# Altium footprint library Diode_SOD-123F.PcbLib: 1 footprints
Each footprint in its own frame and in the unit in brackets; x right, y up, seen from the top. Pads: shape width x height; smd on the part's side, far side on the other; paste and mask are expansions set on the pad; w line width, h text height; cw(c..) or ccw(c..) is an arc to the next point about the centre after c.
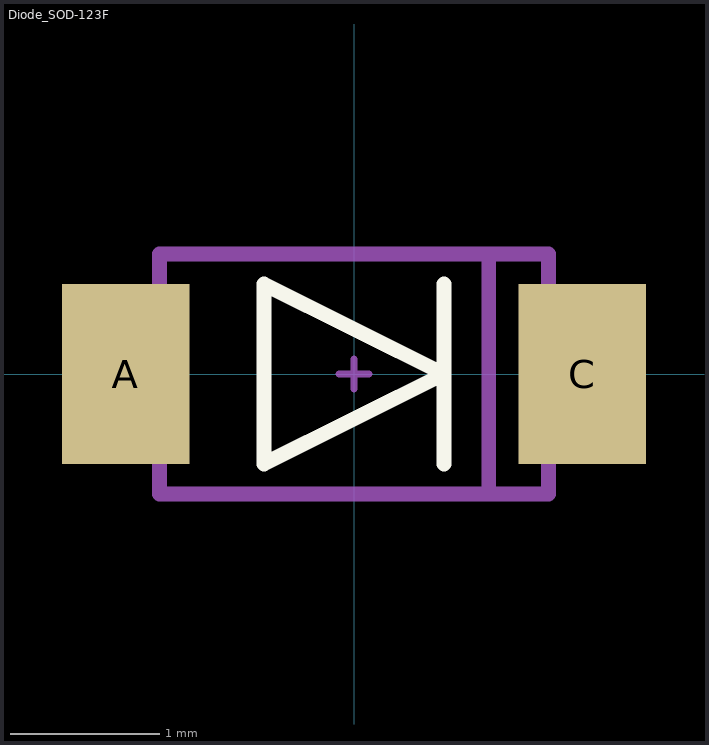
[diagram p0: the footprint, top view; thin cyan lines are the x and y axes]

## Diode_SOD-123F [mm] "Diode_SOD-123F"
height 0.25
pads (2):
  rect 0.85x1.2 smd mask+0.05: A(-1.525,0) C(1.525,0)
Top Overlay:
  lines w0.1: 0.6,-0.6 0.6,0.6 ; -0.6,-0.6 -0.6,0.6 0.6,0 -0.6,-0.6
Top Assembly:
  lines w0.1: 0.9,-0.8 0.9,0.8 ; -1.3,-0.8 1.3,-0.8 1.3,0.8 -1.3,0.8 -1.3,-0.8
Top Designator:
  text ".Designator" at -2,-1.675 h1.2
Top Component Center:
  lines w0.05: -0.1,0 0.1,0 ; 0,-0.1 0,0.1
3D body "Diode_SOD-123F.step": height 1.2, standoff -0.01, extent -1.85,-0.85 1.9,0.85